# EAGLE library part TL074 (library CharlieCreations)
TL0741 Quad JFET OpAmp
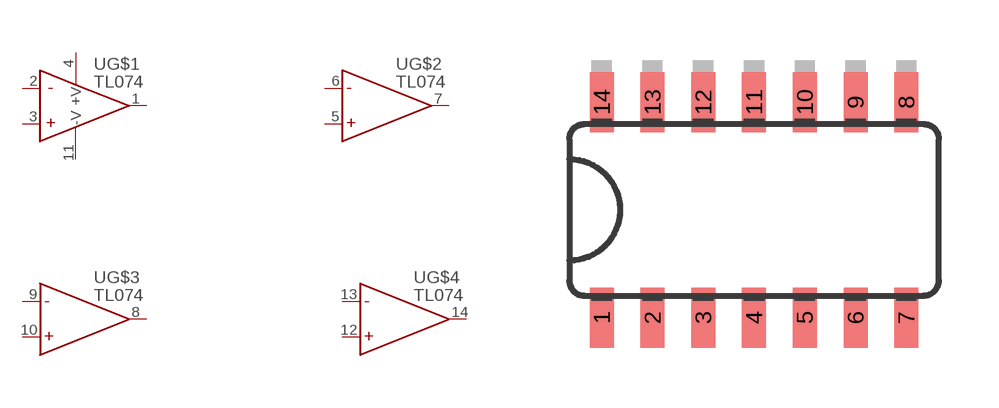
[diagram p6: symbol with the pads of SOIC14; footprint SOIC14]

Designator prefix -; gates G$1=LMV324 G$2=LMV324_2 G$3=LMV324_2 G$4=LMV324_2

## TL0741  [SOIC14]
1  G$1:OUT  out
2  G$1:-IN  in
3  G$1:+IN  in
4  G$1:+V  pwr
5  G$2:+IN  in
6  G$2:-IN  in
7  G$2:OUT  out
8  G$3:OUT  out
9  G$3:-IN  in
10  G$3:+IN  in
11  G$1:-V  pwr
12  G$4:+IN  in
13  G$4:-IN  in
14  G$4:OUT  out

## Footprint SOIC14 (pad centres in mm)
smd 0.599 x 1.501: 1 -3.175,-2.692; 2 -1.905,-2.692; 3 -0.635,-2.692; 4 0.635,-2.692; 5 1.905,-2.692; 6 3.175,-2.692; 7 4.445,-2.692; 8 4.445,2.692; 9 3.175,2.692; 10 1.905,2.692; 11 0.635,2.692; 12 -0.635,2.692; 13 -1.905,2.692; 14 -3.175,2.692